# Altium footprint library CHIP_Test.PcbLib: 65 footprints (part 3 of 5)
Each footprint in its own frame and in the unit in brackets; x right, y up, seen from the top. Pads: shape width x height; smd on the part's side, far side on the other; paste and mask are expansions set on the pad; w line width, h text height; cw(c..) or ccw(c..) is an arc to the next point about the centre after c.
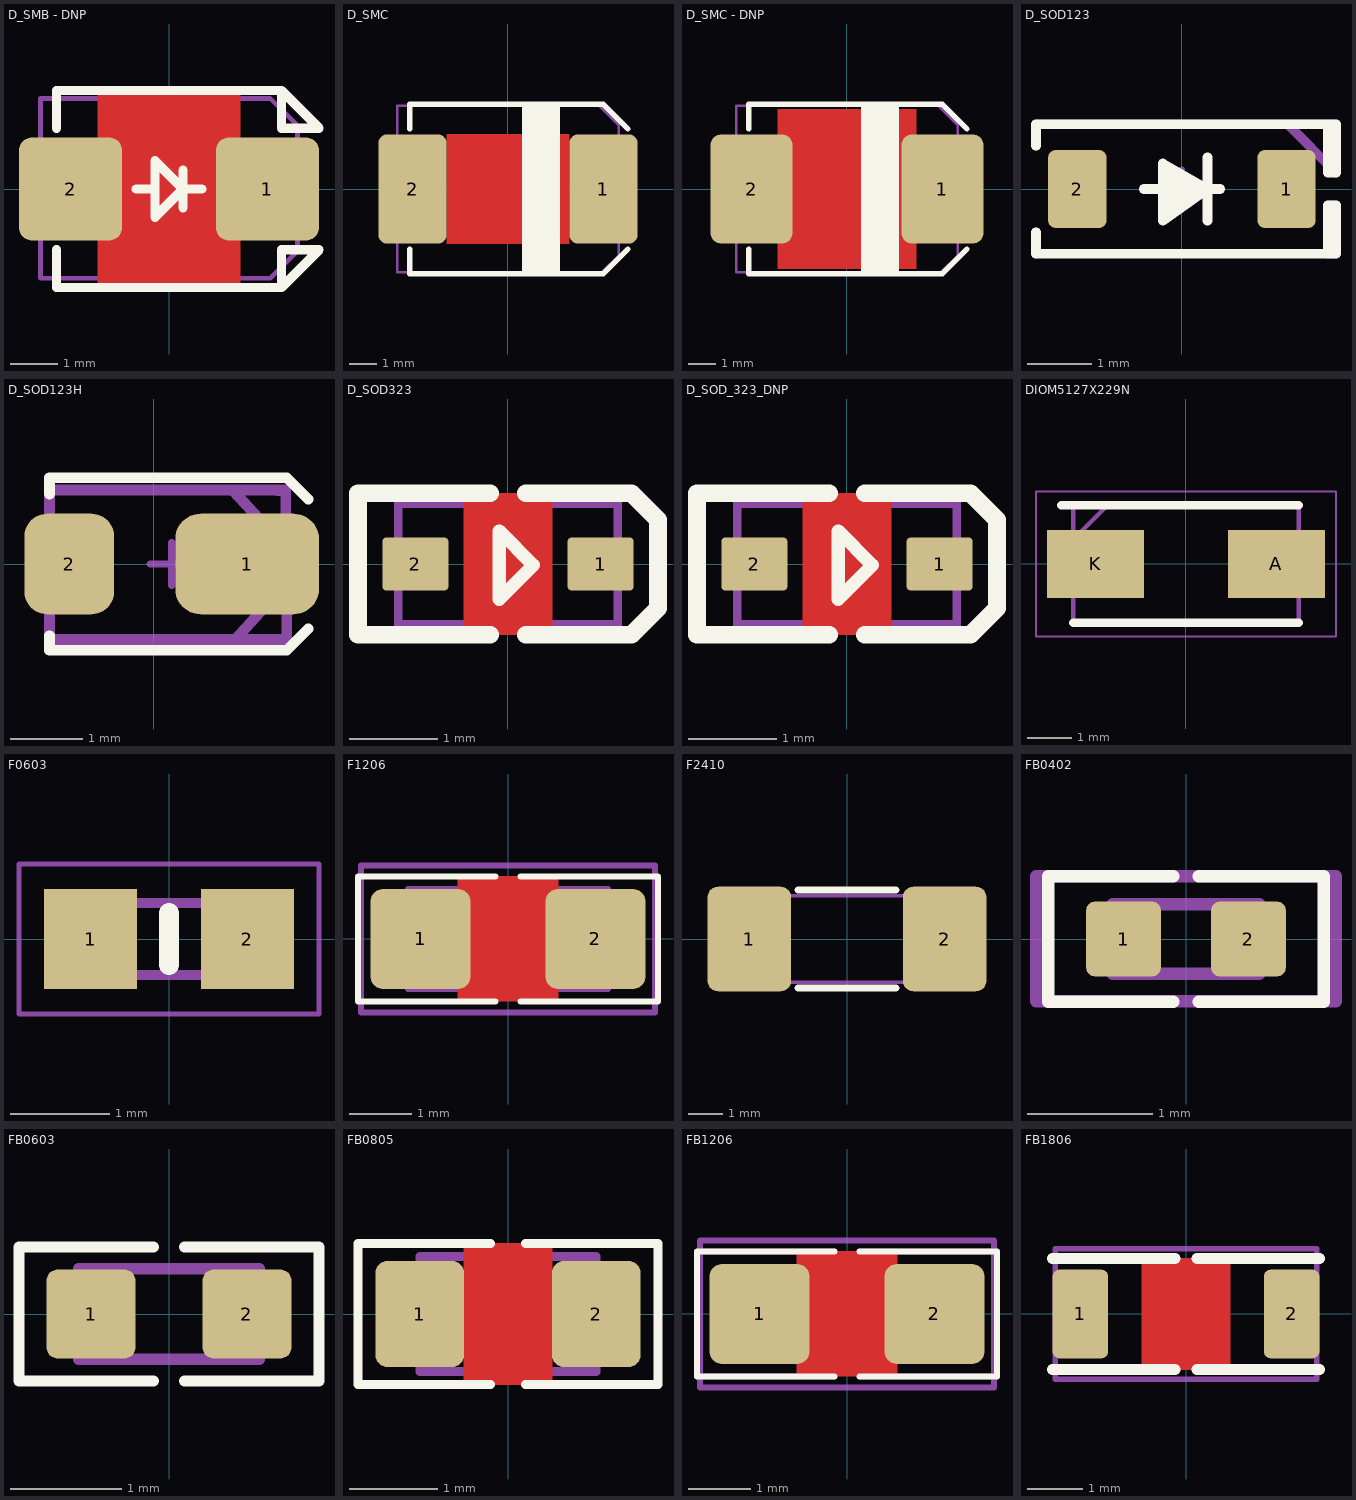
[diagram p2: the footprints below, top view; thin cyan lines are the x and y axes]

## D_SMB - DNP [mm] "SMB Molded Diode, 2-Leads, Body 4.3x3.5mm"
pads (2):
  rrect25% 2.2x2.2 smd: 1(2.1,0) 2(-2.1,0)
Top Layer:
  pour cut-out: -1.524,2.1 -1.524,-2.1 1.524,-2.1 1.524,2.1
Top Overlay:
  lines w0.2: -2.4,-1.3 -2.4,-2.1 2.4,-2.1 ; -2.4,1.3 -2.4,2.1 2.4,2.1 ; -0.7,0 -0.3,0 ; 0.3,-0.4 0.3,0.4 ; 0.7,0 0.3,0 ; 0.3,0 -0.3,-0.6 -0.3,0.6 0.3,0 ; 2.4,-2.1 3.2,-1.3 2.4,-1.3 2.4,-2.1 ; 2.4,2.1 2.4,1.3 3.2,1.3 2.4,2.1
Mechanical 29:
  lines w0.1: -2.743,-1.905 2.159,-1.905 2.743,-1.321 2.743,1.346 2.159,1.93 -2.743,1.93 -2.743,-1.905
  text "'.Designator'" at -2.457,-0.317 h1.02

## D_SMC [mm] "SMC, Molded Diode, 7.0x6.0mm"
height 3
pads (2):
  rrect25% 2.5x4 smd: 1(3.5,0) 2(-3.5,0)
Top Layer:
  pour cut-out: -2.25,2 -2.25,-2 2.25,-2 2.25,2
Top Overlay:
  rectangle: 0.508,-3.048 1.905,3.048
  lines w0.2: -3.6,-2.2 -3.6,-3.1 3.5,-3.1 4.4,-2.2 ; -3.6,2.2 -3.6,3.1 3.5,3.1 4.4,2.2
Mechanical 29:
  lines w0.1: -4.064,-3.048 3.454,-3.048 4.064,-2.438 4.064,2.337 3.353,3.048 -4.064,3.048 -4.064,-3.048
  text "'.Designator'" at -2.457,-0.317 h1.02
3D body "User Library-DIOM8261X24.step": height 2.4, standoff 0.03, extent -4.065,-3.05 4.065,3.05

## D_SMC - DNP [mm] "SMC, Molded Diode, 7.0x6.0mm"
height 3
pads (2):
  rrect25% 3x4 smd: 1(3.5,0) 2(-3.5,0)
Top Layer:
  pour cut-out: -2.54,2.921 -2.54,-2.921 2.54,-2.921 2.54,2.921
Top Overlay:
  rectangle: 0.508,-3.048 1.905,3.048
  lines w0.2: -3.6,-2.2 -3.6,-3.1 3.5,-3.1 4.4,-2.2 ; -3.6,2.2 -3.6,3.1 3.5,3.1 4.4,2.2
Mechanical 29:
  lines w0.1: -4.064,-3.048 -4.064,3.048 3.353,3.048 4.064,2.337 4.064,-2.438 3.454,-3.048 -4.064,-3.048

## D_SOD123 [mil] "SOD-123"
height 53.15
pads (2):
  rrect25% 36x48 smd: 1(64.5,0) 2(-64.5,0)
Top Overlay:
  region: -11.81,15.75 -11.81,-19.68 15.75,0
  lines w5.91: -90,-26.57 -90,-40 90,-40 ; -90,26.57 -90,40 90,40 ; -23.62,0 -11.81,0 ; 15.75,-19.68 15.75,19.68 ; 23.62,0 15.75,0 ; 15.75,0 -11.81,15.75 -11.81,-19.68 15.75,0 ; 90,-40 95,-40 95,-10 90,-10 90,-40 ; 90,40 90,10 95,10 95,40 90,40
Mechanical 15:
  lines w3.94: -11.81,0 11.81,0 ; 0,-11.81 0,11.81
Mechanical 29:
  lines w3.94: 95,14 95,10 ; 95,15 95,10 ; 95,19 95,10
  lines w5.91: -90,-40 -90,-26.57 ; -90,26.57 -90,40 90,40 95,40 95,10 65,40 ; 90,-40 90,-10 95,-10 95,-40 90,-40
  text "'.Designator'" at -72.42,-6.77 h30
3D body "SOD-123.STEP": height 53.15, standoff 0, extent -73.39,-30.52 73.38,30.5

## D_SOD123H [mm]
pads (2):
  rrect50% 2x1.4 smd: 1(1.3,0)
  rrect50% 1.25x1.4 smd: 2(-1.175,0)
Top Overlay:
  lines w0.15: -1.45,-1 -1.45,-1.2 1.825,-1.2 ; -1.45,0.975 -1.45,1.2 1.825,1.2 1.85,1.2 2.15,0.9 ; 2.15,-0.9 1.85,-1.2 ; 1.825,-1.2 1.85,-1.2 ; 1.825,-1.2 1.85,-1.2
Mechanical 15:
  lines w0.1: -0.05,0 0.55,0 ; 0.25,-0.3 0.25,0.3
Mechanical 29:
  lines w0.15: -1.45,-0.57 -1.45,-1.051 1.85,-1.051 ; -1.45,0.547 -1.45,1.028 1.83,1.028 ; 1.1,1.025 1.818,0.244 ; 1.132,-1.052 1.85,-0.27 ; 1.719,1.023 1.836,1.023 1.836,0.261 ; 1.85,-1.048 1.85,-0.852 1.85,-0.462 1.85,-0.267
  text "'.Designator'" at -1.066,-0.123 h0.5
3D body "SS12FP.stp": height 1.1, standoff 0, extent -1.576,-0.896 2.26,0.904

## D_SOD323 [mm] "DIODE0805, SOD-323, SC-76, DL-35"
height 1.4
pads (2):
  rrect15% 0.75x0.6 smd mask+0.075: 1(1.05,0)
  rrect15% 0.75x0.6 smd: 2(-1.05,0)
Top Layer:
  pour cut-out: -0.5,0.8 0.5,0.8 0.5,-0.8 -0.5,-0.8
Top Overlay:
  lines w0.15: -0.1,-0.4 0.288,-0.013 -0.1,0.375 -0.1,-0.4
  lines w0.2: -0.2,-0.8 -1.7,-0.8 -1.7,0.8 -0.2,0.8 ; 0.2,-0.8 1.4,-0.8 1.7,-0.5 1.7,0.5 1.4,0.8 0.2,0.8
Mechanical 29:
  lines w0.1: -1.245,-0.686 -1.245,0.686 1.245,0.686 1.245,-0.686 -1.245,-0.686
  text "'.Designator'" at -1.229,-0.159 h0.51
3D body "SOD323F.STEP": height 1, standoff 0, extent -1.25,-0.675 1.25,0.675

## D_SOD_323_DNP [mm]
pads (2):
  rrect15% 0.75x0.6 smd mask+0.075: 1(1.05,0)
  rrect15% 0.75x0.6 smd: 2(-1.05,0)
Top Layer:
  pour cut-out: -0.5,0.8 0.5,0.8 0.5,-0.8 -0.5,-0.8
Top Overlay:
  lines w0.15: -0.1,-0.4 -0.1,0.375 0.288,-0.013 -0.1,-0.4
  lines w0.2: -0.2,-0.8 -1.7,-0.8 -1.7,0.8 -0.2,0.8 ; 0.2,-0.8 1.4,-0.8 1.7,-0.5 1.7,0.5 1.4,0.8 0.2,0.8
Mechanical 29:
  lines w0.1: -1.245,-0.686 1.245,-0.686 1.245,0.686 -1.245,0.686 -1.245,-0.686
  text "'.Designator'" at -1.229,-0.159 h0.51

## DIOM5127X229N [mm]
pads (2):
  rect 2.2x1.55 smd: A(2.05,0) K(-2.05,0)
Top Overlay:
  lines w0.2: -2.825,1.332 2.552,1.332 ; -2.552,-1.332 2.552,-1.332
Mechanical 15:
  lines w0.05: -3.4,-1.645 3.4,-1.645 3.4,1.645 -3.4,1.645 -3.4,-1.645
Mechanical 29:
  lines w0.1: -2.552,0.558 -1.778,1.332 ; -2.552,-1.332 2.552,-1.332 2.552,1.332 -2.552,1.332 -2.552,-1.332
  text "'.Designator'" at -1.6,-0.237 h0.51
3D body "BYS10-45-E3_TR3.stp": height 2.29, standoff 0, extent -2.552,-1.332 2.552,1.332

## F0603 [mm]
pads (2):
  rect 0.94x1.01 smd: 1(-0.79,0) 2(0.79,0)
Top Overlay:
  lines w0.2: 0,-0.262 0,0.262
Mechanical 15:
  lines w0.05: -1.51,-0.755 1.51,-0.755 1.51,0.755 -1.51,0.755 -1.51,-0.755
Mechanical 29:
  lines w0.1: -0.8,-0.362 -0.8,0.362 0.8,0.362 0.8,-0.362 -0.8,-0.362
  text "'.Designator'" at -1.209,-0.113 h0.5
3D body "0ZCM0001FF2G.stp": height 0.85, standoff 0, extent -0.8,-0.362 0.8,0.363

## F1206 [mm] "FUSE 1206"
height 2
pads (2):
  rrect25% 1.6x1.6 smd mask+0.075: 1(-1.4,0) 2(1.4,0)
Top Layer:
  pour cut-out: -0.8,1 -0.8,-1 0.8,-1 0.8,1
Top Overlay:
  lines w0.1: -0.2,-1 -2.4,-1 -2.4,1 -0.2,1 ; 0.2,-1 2.4,-1 2.4,1 0.2,1
Mechanical 15:
  lines w0.1: -0.5,0 0.5,0 ; 0,-0.5 0,0.5 ; -2.35,-1.175 2.35,-1.175 2.35,1.175 -2.35,1.175 -2.35,-1.175
Mechanical 29:
  lines w0.1: -1.6,-0.8 -1.6,0.8 1.6,0.8 1.6,-0.8 -1.6,-0.8
  text "'.Designator'" at -1.229,-0.115 h0.51
3D body "PTS12066V050.stp": height 0.69, standoff 0.01, extent -1.625,-0.825 1.625,0.825

## F2410 [mm] "FUSE, 6x2.5mm"
height 2.2
pads (2):
  rrect25% 2.4x3 smd mask+0.1: 1(-2.8,0) 2(2.8,0)
Top Overlay:
  lines w0.2: -1.4,-1.4 1.4,-1.4 ; -1.4,1.4 1.4,1.4
Mechanical 29:
  lines w0.1: -3.099,-1.245 -3.099,1.245 3.099,1.245 3.099,-1.245 -3.099,-1.245
  text "'.Designator'" at -1.229,-0.115 h0.51
3D body "User Library-2410 fuse.step": height 2.18, standoff 0.02, extent -3.09,-1.25 3.09,1.25

## FB0402 [mm] "INDUCTOR, FERRITE BEAD, 0402, 1.0X0.5mm"
height 0.4
pads (2):
  rrect25% 0.6x0.6 smd mask+0.075: 1(-0.5,0) 2(0.5,0)
Top Overlay:
  lines w0.1: -0.1,-0.5 -1.1,-0.5 -1.1,0.5 -0.1,0.5 ; 0.1,-0.5 1.1,-0.5 1.1,0.5 0.1,0.5
Mechanical 15:
  lines w0.1: -1.2,-0.5 1.2,-0.5 1.2,0.5 -1.2,0.5 -1.2,-0.5
Mechanical 29:
  lines w0.1: -0.584,-0.279 -0.584,0.279 0.584,0.279 0.584,-0.279 -0.584,-0.279
  text "'.Designator'" at -0.615,-0.079 h0.25
3D body "User Library-Chip Inductor0402.step": height 0.6, standoff 0, extent -0.5,-0.25 0.5,0.25

## FB0603 [mm] "INDUCTOR, FERRITE BEAD, 0603, 1.6X0.8mm"
height 0.6
pads (2):
  rrect25% 0.8x0.8 smd mask+0.05: 1(-0.7,0) 2(0.7,0)
Top Overlay:
  lines w0.1: -0.14,-0.6 -1.346,-0.6 -1.346,0.6 -0.14,0.6 ; 0.14,-0.6 1.346,-0.6 1.346,0.6 0.14,0.6
Mechanical 29:
  lines w0.1: -0.813,-0.406 -0.813,0.406 0.813,0.406 0.813,-0.406 -0.813,-0.406
  text "'.Designator'" at -0.737,-0.095 h0.3
3D body "User Library-Chip Inductor0603.step": height 0.95, standoff 0, extent -0.8,-0.4 0.8,0.4

## FB0805 [mm] "INDUCTOR, FERRITE BEAD, 0805, 2.0X1.3mm"
pads (2):
  rrect25% 1x1.2 smd mask+0.075: 1(-1,0) 2(1,0)
Top Layer:
  pour cut-out: -0.5,0.8 0.5,0.8 0.5,-0.8 -0.5,-0.8
Top Overlay:
  lines w0.1: -0.2,-0.8 -1.7,-0.8 -1.7,0.8 -0.2,0.8 ; 0.2,-0.8 1.7,-0.8 1.7,0.8 0.2,0.8
Mechanical 29:
  lines w0.1: -1,-0.65 -1,0.65 1,0.65 1,-0.65 -1,-0.65
  text "'.Designator'" at -0.916,-0.086 h0.38
3D body "User Library-ind_0805.step": height 0.95, standoff 0, extent -1,-0.6 1,0.6

## FB1206 [mm] "INDUCTOR, FERRITE BEAD, 1206, 3.2X1.6mm"
height 2
pads (2):
  rrect25% 1.6x1.6 smd mask+0.075: 1(-1.4,0) 2(1.4,0)
Top Layer:
  pour cut-out: -0.8,1 -0.8,-1 0.8,-1 0.8,1
Top Overlay:
  lines w0.1: -0.2,-1 -2.4,-1 -2.4,1 -0.2,1 ; 0.2,-1 2.4,-1 2.4,1 0.2,1
Mechanical 15:
  lines w0.1: -0.5,0 0.5,0 ; 0,-0.5 0,0.5 ; -2.35,-1.175 -2.35,1.175 2.35,1.175 2.35,-1.175 -2.35,-1.175
Mechanical 29:
  lines w0.1: -0.2,-1 -2.4,-1 -2.4,1 -0.2,1 ; 0.2,-1 2.4,-1 2.4,1 0.2,1
  text "'.Designator'" at -1.229,-0.115 h0.51
3D body "User Library-ind_1206.step": height 1.1, standoff 0, extent -1.6,-0.8 1.6,0.8

## FB1806 [mm] "INDUCTOR, FERRITE BEAD, 1806, 4.5X1.6mm"
height 2
pads (2):
  rrect25% 1x1.6 smd mask+0.075: 1(-1.9,0) 2(1.9,0)
Top Layer:
  pour cut-out: -0.8,1 -0.8,-1 0.8,-1 0.8,1
Top Overlay:
  lines w0.2: -2.4,-1 -0.2,-1 ; -2.4,1 -0.2,1 ; 0.2,-1 2.4,-1 ; 0.2,1 2.4,1
Mechanical 15:
  lines w0.1: -0.5,0 0.5,0 ; 0,-0.5 0,0.5 ; -2.35,-1.175 2.35,-1.175 2.35,1.175 -2.35,1.175 -2.35,-1.175
Mechanical 29:
  lines w0.2: -2.4,-1 -0.2,-1 ; -2.4,1 -0.2,1 ; 0.2,-1 2.4,-1 ; 0.2,1 2.4,1
  text "'.Designator'" at -1.229,-0.115 h0.51
3D body: height 1.6, standoff 0, extent 1.55,-0.8 2.25,0.8
3D body: height 1.6, standoff 0, extent -2.25,-0.8 -1.55,0.8
3D body: height 1.6, standoff 0, extent -1.55,-0.8 1.55,0.8